# EAGLE library part 3511220BMSS0BNA1_2.54MM_2X20_MALE (library BtoB_connector)
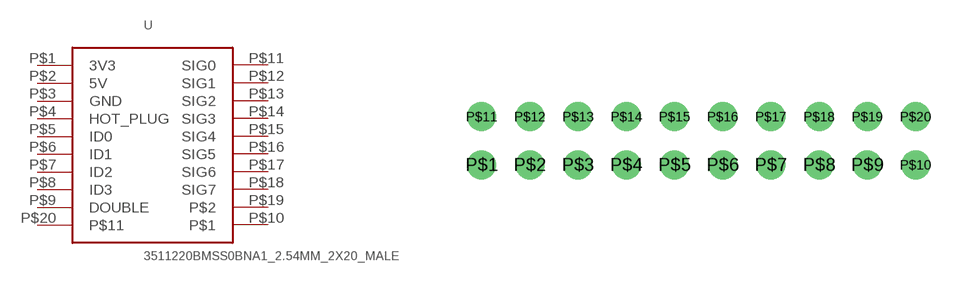
[diagram p0: symbol with the pads of 3511220BMSS0BNA1_2.54MM_2X20_MALE; footprint 3511220BMSS0BNA1_2.54MM_2X20_MALE]

Designator prefix -

## 3511220BMSS0BNA1_2.54MM_2X20_MALE  [3511220BMSS0BNA1_2.54MM_2X20_MALE]
P$1  3V3
P$2  5V
P$3  GND
P$4  HOT_PLUG
P$5  ID0
P$6  ID1
P$7  ID2
P$8  ID3
P$9  DOUBLE
P$10  P$1
P$11  SIG0
P$12  SIG1
P$13  SIG2
P$14  SIG3
P$15  SIG4
P$16  SIG5
P$17  SIG6
P$18  SIG7
P$19  P$2
P$20  P$11

## Footprint 3511220BMSS0BNA1_2.54MM_2X20_MALE (pad centres in mm)
drill 1.016: P$1 0,0; P$2 2.54,0; P$3 5.08,0; P$4 7.62,0; P$5 10.16,0; P$6 12.7,0; P$7 15.24,0; P$8 17.78,0; P$9 20.32,0; P$10 22.86,0; P$11 0,2.54; P$12 2.54,2.54; P$13 5.08,2.54; P$14 7.62,2.54; P$15 10.16,2.54; P$16 12.7,2.54; P$17 15.24,2.54; P$18 17.78,2.54; P$19 20.32,2.54; P$20 22.86,2.54